# Altium schematic symbol library AD8421BRZ.SchLib: 1 symbol
Pins are listed as number, name and electrical type; pins without a type are passive.

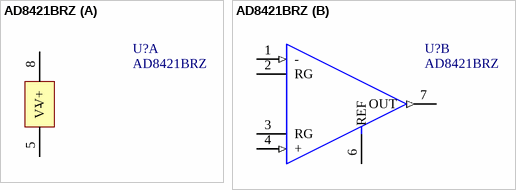
[diagram p0: symbol AD8421BRZ]

## AD8421BRZ
designator U?
High Performance, Low Power, Precision Instrumentation Amplifier
footprint SOIC127P600X175-8N(SOIC_8) (SOIC, 8-Leads, Body 4,90x3,90mm, Pitch 1,27mm, IPC Medium Density)
part A pins: 5 V-, 8 V+ (power)
part B pins: 1 - (in), 2 RG, 3 RG, 4 + (in), 6 REF, 7 OUT (out)